# EAGLE library part NRF24L01+ (library my-library_old)
NRF24L01+ wireless data transmission module 2.4G
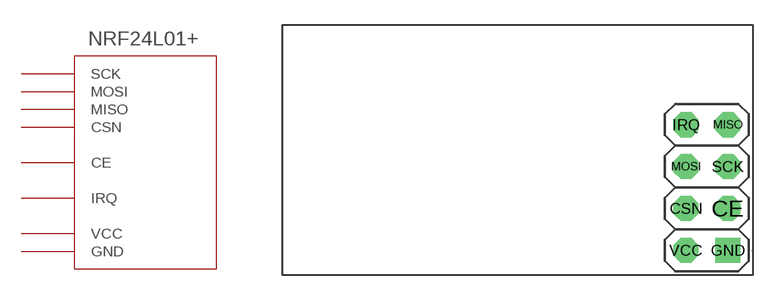
[diagram p6: symbol with the pads of NRF24L01+; footprint NRF24L01+]

Designator prefix -

## NRF24L01+  [NRF24L01+]
CE  CE  pas
CSN  CSN  pas
GND  GND  pas
IRQ  IRQ  pas
MISO  MISO  pas
MOSI  MOSI  pas
SCK  SCK  pas
VCC  VCC  pas

## Footprint NRF24L01+ (pad centres in mm)
drill 1.016 octagon: CE -1.51,4.05; CSN -4.05,4.05; IRQ -4.05,9.13; MISO -1.51,9.13; MOSI -4.05,6.59; SCK -1.51,6.59; VCC -4.05,1.51
drill 1.016 square: GND -1.51,1.51